# Altium footprint library PCB - LEADLESS - LQFP - TRINAMIC LQFP-44 10X10MM.PcbLib: 1 footprints
Each footprint in its own frame and in the unit in brackets; x right, y up, seen from the top. Pads: shape width x height; smd on the part's side, far side on the other; paste and mask are expansions set on the pad; w line width, h text height; cw(c..) or ccw(c..) is an arc to the next point about the centre after c.
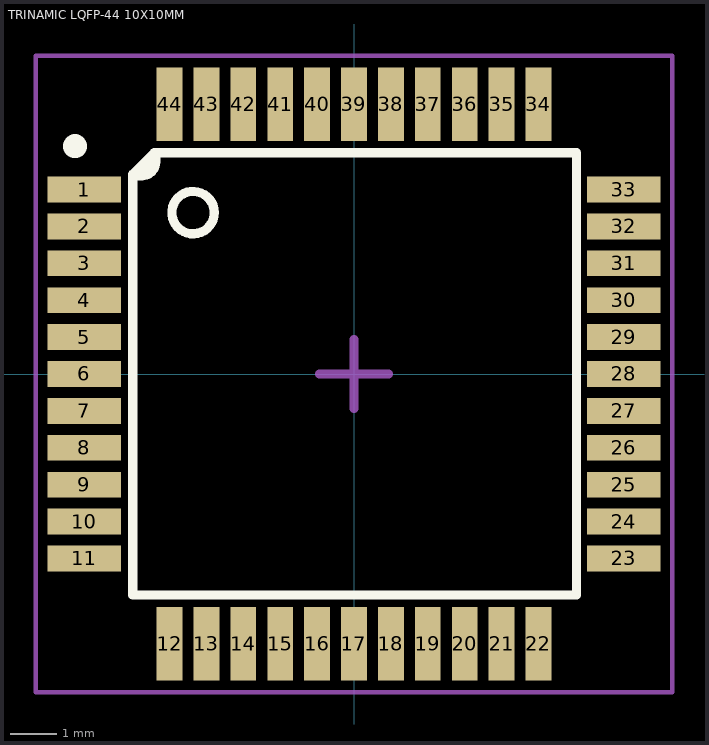
[diagram p0: the footprint, top view; thin cyan lines are the x and y axes]

## TRINAMIC LQFP-44 10X10MM [mm] "44 Pin LQFP 10x10mm, 1.6mm  high"
height 1.6
pads (44):
  rect 1.6x0.56 smd: 1(-5.85,4) 2(-5.85,3.2) 3(-5.85,2.4) 4(-5.85,1.6) 5(-5.85,0.8) 6(-5.85,0) 7(-5.85,-0.8) 8(-5.85,-1.6) 9(-5.85,-2.4) 10(-5.85,-3.2) 11(-5.85,-4) 23(5.85,-4) 24(5.85,-3.2) 25(5.85,-2.4) 26(5.85,-1.6) 27(5.85,-0.8) 28(5.85,0) 29(5.85,0.8) 30(5.85,1.6) 31(5.85,2.4) 32(5.85,3.2) 33(5.85,4)
  rect 0.56x1.6 smd: 12(-4,-5.85) 13(-3.2,-5.85) 14(-2.4,-5.85) 15(-1.6,-5.85) 16(-0.8,-5.85) 17(0,-5.85) 18(0.8,-5.85) 19(1.6,-5.85) 20(2.4,-5.85) 21(3.2,-5.85) 22(4,-5.85) 34(4,5.85) 35(3.2,5.85) 36(2.4,5.85) 37(1.6,5.85) 38(0.8,5.85) 39(0,5.85) 40(-0.8,5.85) 41(-1.6,5.85) 42(-2.4,5.85) 43(-3.2,5.85) 44(-4,5.85)
Top Overlay:
  circle w0.5: c-6.05,4.94 r0.01
  circle w0.2: c-3.49,3.5 r0.46
  region: -4.8,4.3 -4.4,4.4 -4.3,4.7
  lines w0.2: -4.8,4.3 -4.6,4.3 ccw(c-4.6,4.6) -4.3,4.6 -4.3,4.8 ; -4.8,-4.795 -4.8,4.33 -4.33,4.8 4.825,4.8 4.825,-4.795 -4.8,-4.795
Mechanical 13:
  lines w0.1: -4.78,-4.79 -4.78,4.35 -4.33,4.8 4.825,4.8 4.825,-4.79 -4.78,-4.79
Mechanical 15 (Mech15):
  lines w0.1: -6.9,-6.9 6.9,-6.9 6.9,6.9 -6.9,6.9 -6.9,-6.9
  lines w0.2: -0.75,0 0.75,0 ; 0,-0.75 0,0.75
3D body "Trinamic - LQFP-44.step": height 1.6, standoff 0, extent -6,-6 6,6